# Altium footprint library 21-Transistor.PcbLib: 90 footprints (part 2 of 6)
Each footprint in its own frame and in the unit in brackets; x right, y up, seen from the top. Pads: shape width x height; smd on the part's side, far side on the other; paste and mask are expansions set on the pad; w line width, h text height; cw(c..) or ccw(c..) is an arc to the next point about the centre after c.
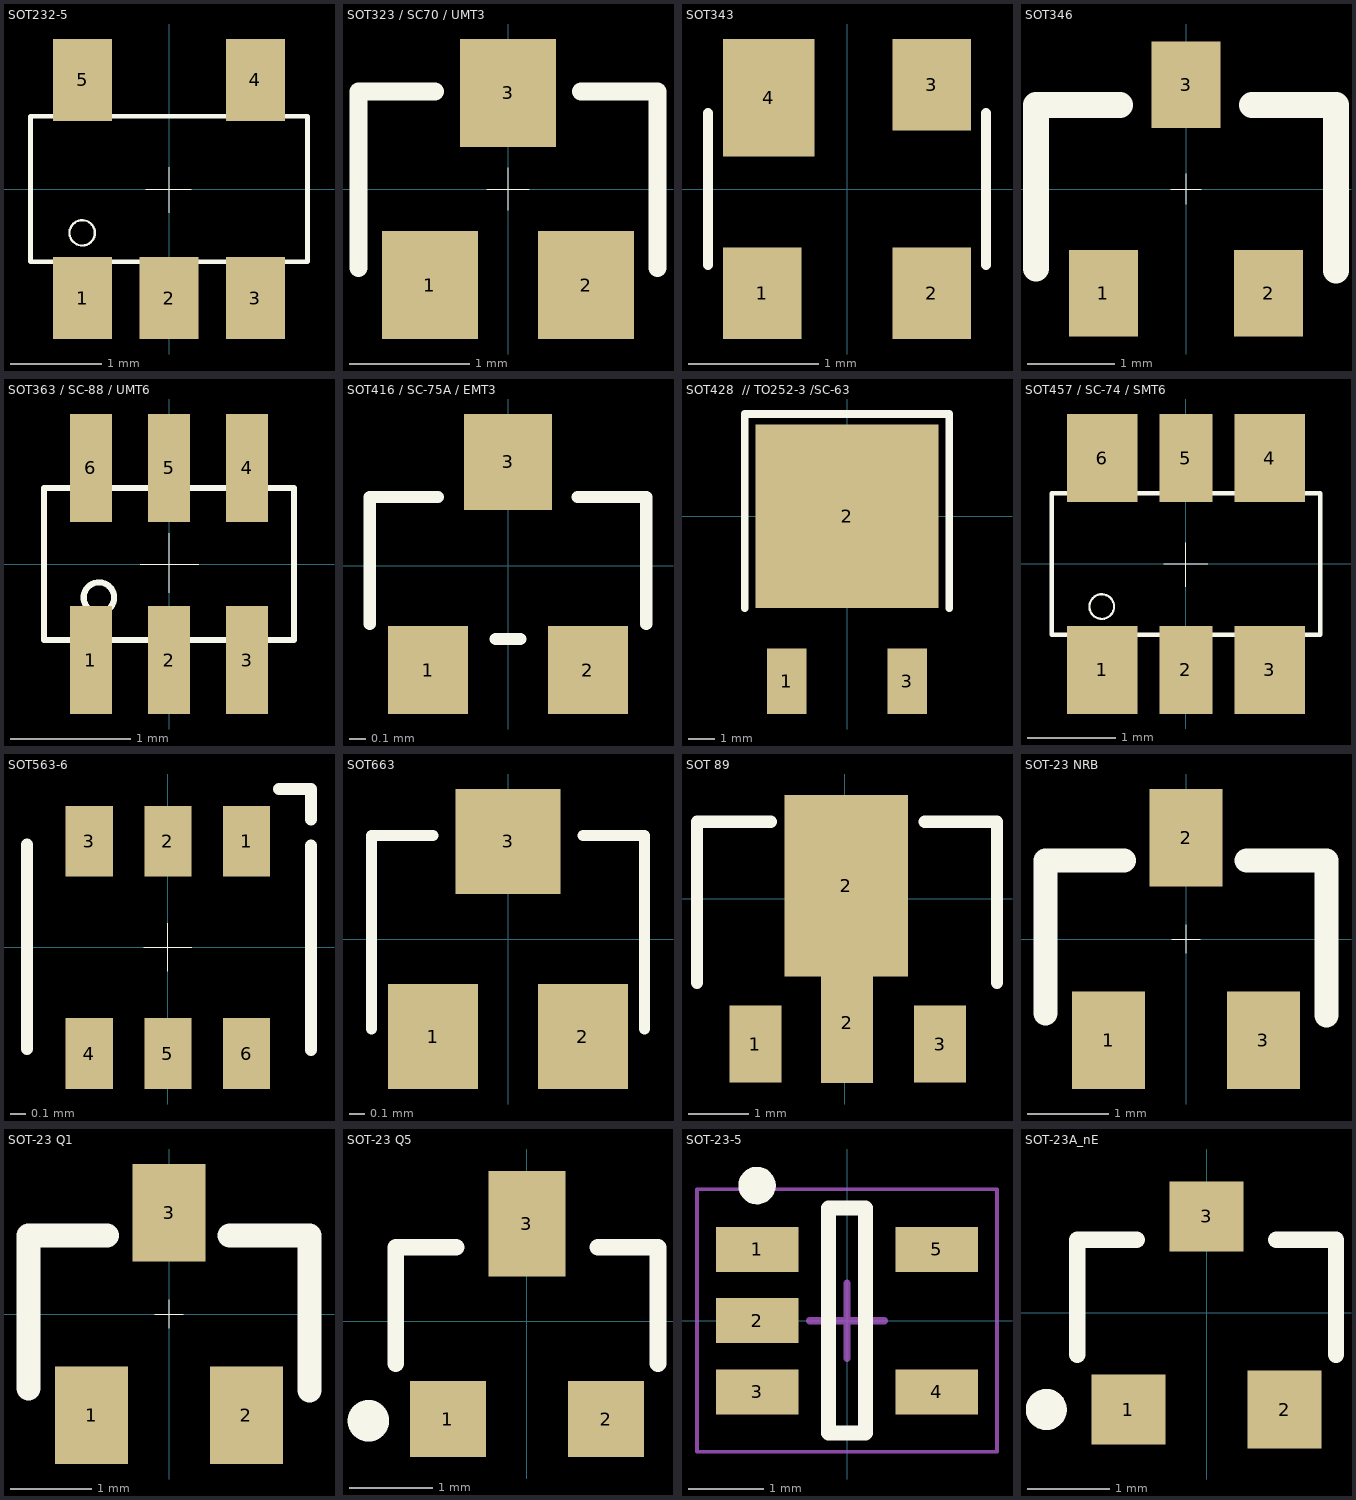
[diagram p1: the footprints below, top view; thin cyan lines are the x and y axes]

## SOT232-5 [mm]
height 1
pads (5):
  rect 0.65x0.9 smd mask+0.051: 1(-0.95,-1.2) 2(0,-1.2) 3(0.95,-1.2) 4(0.95,1.2) 5(-0.95,1.2)
Top Overlay:
  circle w0.025: c-0.955,-0.483 r0.14
  lines w0.001: -0.254,0 0.244,0 ; 0,-0.259 0,0.239
  lines w0.025: -1.161,0.813 -1.161,1.407 -0.757,1.407 -0.757,0.813 ; -1.161,1.049 -0.757,1.049 ; -1.158,-1.041 -0.754,-1.041 ; -1.158,-0.805 -1.158,-1.4 -0.754,-1.4 -0.754,-0.805 ; -0.203,-1.041 0.201,-1.041 ; -0.203,-0.805 -0.203,-1.4 0.201,-1.4 0.201,-0.805 ; 0.747,-1.041 1.151,-1.041 ; 0.747,-0.805 0.747,-1.4 1.151,-1.4 1.151,-0.805 ; 0.747,0.81 0.747,1.405 1.151,1.405 1.151,0.81 ; 0.747,1.046 1.151,1.046
  lines w0.051: -1.524,-0.8 -1.524,0.8 1.524,0.8 1.524,-0.8 -1.524,-0.8
3D body "sot23-5.stp": height 1.1, standoff -0.01, extent -1.55,-1.501 1.55,1.473

## SOT323 / SC70 / UMT3 [mm]
height 1
pads (3):
  rect 0.8x0.9 smd mask+0.051: 1(-0.65,-0.8) 2(0.65,-0.8) 3(0,0.8)
Top Overlay:
  lines w0.005: -0.178,0 0.178,0 ; 0,-0.178 0,0.178
  lines w0.15: -1.245,-0.66 -1.245,0.813 -0.61,0.813 ; 0.61,0.813 1.245,0.813 1.245,-0.66
3D body "umd3.stp": height 0.9, standoff 0, extent -1,-1.067 1,1.033

## SOT343 [mm]
height 1
pads (4):
  rect 0.6x0.7 smd mask+0.051: 1(-0.65,-0.8) 2(0.65,-0.8) 3(0.65,0.8)
  rect 0.7x0.9 smd mask+0.051: 4(-0.6,0.7)
Top Overlay:
  lines w0.076: -1.067,-0.584 -1.067,0.584 ; 1.067,-0.584 1.067,0.584
3D body "umd4.stp": height 0.9, standoff 0, extent -1,-1.041 1,1.059

## SOT346 [mm]
height 1
pads (3):
  rect 0.8x1 smd mask+0.051: 1(-0.95,-1.2) 2(0.95,-1.2) 3(0,1.2)
Top Overlay:
  lines w0.005: -0.178,0 0.178,0 ; 0,-0.178 0,0.178
  lines w0.3: -1.727,-0.914 -1.727,0.965 -0.762,0.965 ; 0.762,0.965 1.727,0.965 1.727,-0.94
3D body "smd3.stp": height 1.1, standoff 0, extent -1.475,-1.448 1.425,1.352

## SOT363 / SC-88 / UMT6 [mm]
height 1
pads (6):
  rect 0.35x0.9 smd mask+0.051: 1(-0.65,-0.8) 2(0,-0.8) 3(0.65,-0.8) 4(0.65,0.8) 5(0,0.8) 6(-0.65,0.8)
Top Overlay:
  circle w0.051: c-0.584,-0.279 r0.127
  lines w0.005: -0.241,0 0.246,0 ; 0,-0.239 0,0.257
  lines w0.013: -0.762,-0.787 -0.533,-0.787 ; -0.762,-0.711 -0.533,-0.711 ; -0.762,-0.635 -0.762,-0.94 -0.533,-0.94 -0.533,-0.66 ; -0.762,0.635 -0.762,0.991 -0.533,0.991 -0.533,0.635 ; -0.762,0.711 -0.533,0.711 ; -0.762,0.838 -0.533,0.838 ; -0.127,-0.787 0.102,-0.787 ; -0.127,-0.711 0.102,-0.711 ; -0.127,-0.635 -0.127,-0.94 0.102,-0.94 0.102,-0.66 ; -0.102,0.635 -0.102,0.991 0.127,0.991 0.127,0.635 ; -0.102,0.711 0.127,0.711 ; -0.102,0.838 0.127,0.838 ; 0.533,-0.787 0.762,-0.787 ; 0.533,-0.711 0.762,-0.711 ; 0.533,-0.66 0.533,-0.94 0.762,-0.94 0.762,-0.635 ; 0.533,0.635 0.533,0.991 0.762,0.991 0.762,0.635 ; 0.533,0.711 0.762,0.711 ; 0.533,0.838 0.762,0.838
  lines w0.051: -1.041,-0.635 1.041,-0.635 1.041,0.635 -1.041,0.635 -1.041,-0.635
3D body "umd6.stp": height 0.9, standoff 0, extent -1,-1.041 1,1.059

## SOT416 / SC-75A / EMT3 [mm]
height 1
pads (3):
  rect 0.5x0.55 smd mask+0.051: 1(-0.5,-0.65) 2(0.5,-0.65)
  rect 0.55x0.6 smd mask+0.051: 3(0,0.65)
Top Overlay:
  lines w0.076: -0.864,-0.363 -0.864,0.432 -0.437,0.432 ; -0.076,-0.457 0.076,-0.457 ; 0.434,0.432 0.864,0.432 0.864,-0.363
3D body "sc-75a.stp": height 0.7, standoff -0.02, extent -0.8,-0.813 0.8,0.786

## SOT428  // TO252-3 /SC-63 [mm] "CPT3"
height 1
pads (3):
  rect 1.5x2.5 smd: 1(-2.3,-6.3) 3(2.3,-6.3)
  rect 7x7 smd: 2(0,0)
Top Overlay:
  lines w0.3: -3.9,-3.5 -3.9,3.9 3.9,3.9 3.9,-3.5
3D body "sot428.stp": height 2.38, standoff 0, extent -3.4,-6.9 3.33,3.053

## SOT457 / SC-74 / SMT6 [mm]
height 1
pads (6):
  rect 0.8x1 smd mask+0.051: 1(-0.95,-1.2) 3(0.95,-1.2) 4(0.95,1.2) 6(-0.95,1.2)
  rect 0.6x1 smd mask+0.051: 2(0,-1.2) 5(0,1.2)
Top Overlay:
  circle w0.025: c-0.955,-0.483 r0.14
  lines w0.001: -0.254,0 0.244,0 ; 0,-0.259 0,0.239
  lines w0.025: -1.161,0.813 -1.161,1.407 -0.757,1.407 -0.757,0.813 ; -1.161,1.049 -0.757,1.049 ; -1.158,-1.041 -0.754,-1.041 ; -1.158,-0.805 -1.158,-1.4 -0.754,-1.4 -0.754,-0.805 ; -0.203,-1.041 0.201,-1.041 ; -0.203,-0.805 -0.203,-1.4 0.201,-1.4 0.201,-0.805 ; -0.201,0.805 -0.201,1.4 0.203,1.4 0.203,0.805 ; -0.201,1.041 0.203,1.041 ; 0.747,-1.041 1.151,-1.041 ; 0.747,-0.805 0.747,-1.4 1.151,-1.4 1.151,-0.805 ; 0.747,0.81 0.747,1.405 1.151,1.405 1.151,0.81 ; 0.747,1.046 1.151,1.046
  lines w0.051: -1.524,-0.8 1.524,-0.8 1.524,0.8 -1.524,0.8 -1.524,-0.8
3D body "smd6.stp": height 1.1, standoff 0, extent -1.452,-1.372 1.448,1.428

## SOT563-6 [mm]
height 1
pads (6):
  rect 0.3x0.45 smd mask+0.051: 1(0.5,0.675) 2(0,0.675) 3(-0.5,0.675) 4(-0.5,-0.675) 5(0,-0.675) 6(0.5,-0.675)
Top Overlay:
  lines w0.005: -0.152,0 0.152,0 ; 0,-0.152 0,0.152
  lines w0.076: -0.897,-0.646 -0.897,0.654 ; 0.705,1.007 0.908,1.007 0.908,0.813 ; 0.911,-0.651 0.911,0.649
3D body "sot-563-6.stp": height 0.6, standoff 0, extent -0.846,-0.851 0.854,0.849

## SOT663 [mm]
height 1
pads (3):
  rect 0.6x0.7 smd mask+0.051: 1(-0.5,-0.65) 2(0.5,-0.65)
  rect 0.7x0.7 smd mask+0.051: 3(0,0.65)
Top Overlay:
  lines w0.076: -0.91,-0.6 -0.91,0.69 -0.5,0.69 ; 0.5,0.69 0.91,0.69 0.91,-0.6
3D body "sot663.stp": height 0.6, standoff 0, extent -0.85,-0.85 0.85,0.85

## SOT 89 [mil]
height 1023.62
pads (4):
  rect 34x50 smd mask+2.76: 1(-58,-94.5) 3(62,-94.5)
  rect 80x118.11 smd mask+2.76: 2(1,8.5)
  rect 34x78.74 smd: 2(1.5,-80.5)
Top Overlay:
  lines w8: -96,-54.5 -96,50 -48,50 ; 52,50 99,50 99,-54.5
3D body "sot89.stp": height 62.99, standoff 0, extent -88.6,-102 92.5,65.32
3D body "1_8-3.stp": height 0.79, standoff 0, extent -34.94,-49.55 35.93,68.56
3D body "07-1_5.stp": height 0.79, standoff 0, extent -72.28,-119.55 -44.72,-60.5
3D body "07-1_5.stp": height 0.79, standoff 0, extent -12.78,-120.05 14.78,-61
3D body "07-1_5.stp": height 0.79, standoff 0, extent 48.22,-119.55 75.78,-60.5

## SOT-23 NRB [mm]
height 1
pads (3):
  rect 0.9x1.2 smd mask+0.07: 1(-0.953,-1.245) 3(0.953,-1.245)
  rect 0.9x1.2 smd mask+0.051: 2(0,1.245)
Top Overlay:
  lines w0.005: -0.178,0 0.178,0 ; 0,-0.178 0,0.178
  lines w0.3: -1.727,-0.914 -1.727,0.965 -0.762,0.965 ; 0.749,0.965 1.727,0.965 1.727,-0.94
3D body "sot23-3.stp": height 1.1, standoff 0.01, extent -1.55,-1.501 1.55,1.499
3D body "0_7-1-sot-23.stp": height 0.02, standoff 0, extent -0.356,0.749 0.344,1.749
3D body "0_7-1-sot-23.stp": height 0.02, standoff 0, extent 0.595,-1.737 1.295,-0.737
3D body "0_7-1-sot-23.stp": height 0.02, standoff 0, extent -1.297,-1.749 -0.597,-0.749

## SOT-23 Q1 [mm]
height 1
pads (3):
  rect 0.9x1.2 smd mask+0.07: 1(-0.953,-1.245) 2(0.953,-1.245)
  rect 0.9x1.2 smd mask+0.051: 3(0,1.245)
Top Overlay:
  lines w0.005: -0.178,0 0.178,0 ; 0,-0.178 0,0.178
  lines w0.3: -1.727,-0.914 -1.727,0.965 -0.762,0.965 ; 0.749,0.965 1.727,0.965 1.727,-0.94
3D body "sot23-3.stp": height 1.1, standoff 0.01, extent -1.55,-1.501 1.55,1.499
3D body "0_7-1-sot-23.stp": height 0.02, standoff 0, extent -0.356,0.749 0.344,1.749
3D body "0_7-1-sot-23.stp": height 0.02, standoff 0, extent 0.595,-1.737 1.295,-0.737
3D body "0_7-1-sot-23.stp": height 0.02, standoff 0, extent -1.297,-1.749 -0.597,-0.749

## SOT-23 Q5 [mm]
height 1
pads (3):
  rect 0.914x0.914 smd mask+0.07: 1(-0.95,-1.175) 2(0.95,-1.175)
  rect 0.924x1.27 smd: 3(0,1.175)
Top Overlay:
  circle w0.25: c-1.905,-1.194 r0.125
  lines w0.2: -1.575,-0.508 -1.575,0.889 -0.85,0.889 ; 0.85,0.889 1.575,0.889 1.575,-0.508
3D body "0_7-1-sot-23.stp": height 0.02, standoff 0, extent -0.344,0.67 0.356,1.67
3D body "0_7-1-sot-23.stp": height 0.02, standoff 0, extent 0.606,-1.68 1.306,-0.68
3D body "0_7-1-sot-23.stp": height 0.02, standoff 0, extent -1.294,-1.68 -0.594,-0.68
3D body "sot23-3.stp": height 1.1, standoff 0.01, extent -1.55,-1.501 1.55,1.499

## SOT-23-5 [mm]
height 1
pads (5):
  rect 1.1x0.6 smd: 1(-1.2,0.95) 2(-1.2,0) 3(-1.2,-0.95) 4(1.2,-0.95) 5(1.2,0.95)
Top Overlay:
  circle w0.25: c-1.2,1.8 r0.125
  lines w0.2: -0.25,-1.5 0.25,-1.5 0.25,1.5 -0.25,1.5 -0.25,-1.5
Mechanical 15:
  lines w0.05: -2,-1.75 -2,1.75 2,1.75 2,-1.75 -2,-1.75
  lines w0.1: -0.5,0 0.5,0 ; 0,-0.5 0,0.5
3D body "0_6-1_1.stp": height 0.02, standoff 0, extent -1.75,-1.25 -0.65,-0.65
3D body "0_6-1_1.stp": height 0.02, standoff 0, extent -1.75,-0.3 -0.65,0.3
3D body "0_6-1_1.stp": height 0.02, standoff 0, extent 0.65,-1.25 1.75,-0.65
3D body "0_6-1_1.stp": height 0.02, standoff 0, extent 0.65,0.65 1.75,1.25
3D body "0_6-1_1.stp": height 0.02, standoff 0, extent -1.75,0.65 -0.65,1.25
3D body "smd5.stp": height 1.1, standoff 0, extent -1.4,-1.45 1.4,1.45

## SOT-23A_nE [mm]
height 1
pads (3):
  rect 0.9x0.85 smd mask+0.07: 1(-0.95,-1.175)
  rect 0.9x0.95 smd mask+0.07: 2(0.95,-1.175)
  rect 0.9x0.85 smd: 3(0,1.175)
Top Overlay:
  circle w0.25: c-1.95,-1.175 r0.125
  lines w0.2: -1.575,-0.508 -1.575,0.889 -0.85,0.889 ; 0.85,0.889 1.575,0.889 1.575,-0.508
3D body "sot23-3.stp": height 1.1, standoff 0.01, extent -1.55,-1.501 1.55,1.499
3D body "0_7-1-sot-23.stp": height 0.02, standoff 0, extent -1.417,-1.618 -0.717,-0.618
3D body "0_7-1-sot-23.stp": height 0.02, standoff 0, extent 0.488,-1.694 1.188,-0.694
3D body "0_7-1-sot-23.stp": height 0.02, standoff 0, extent -0.452,0.592 0.248,1.592
3D body "0_7-1-sot-23.stp": height 0.02, standoff 0, extent -1.188,-1.618 -0.488,-0.618
3D body "0_7-1-sot-23.stp": height 0.02, standoff 0, extent 0.742,-1.694 1.442,-0.694
3D body "0_7-1-sot-23.stp": height 0.02, standoff 0, extent -0.248,0.592 0.452,1.592